# Altium footprint library SOP.PcbLib: 39 footprints (part 3 of 3)
Each footprint in its own frame and in the unit in brackets; x right, y up, seen from the top. Pads: shape width x height; smd on the part's side, far side on the other; paste and mask are expansions set on the pad; w line width, h text height; cw(c..) or ccw(c..) is an arc to the next point about the centre after c.
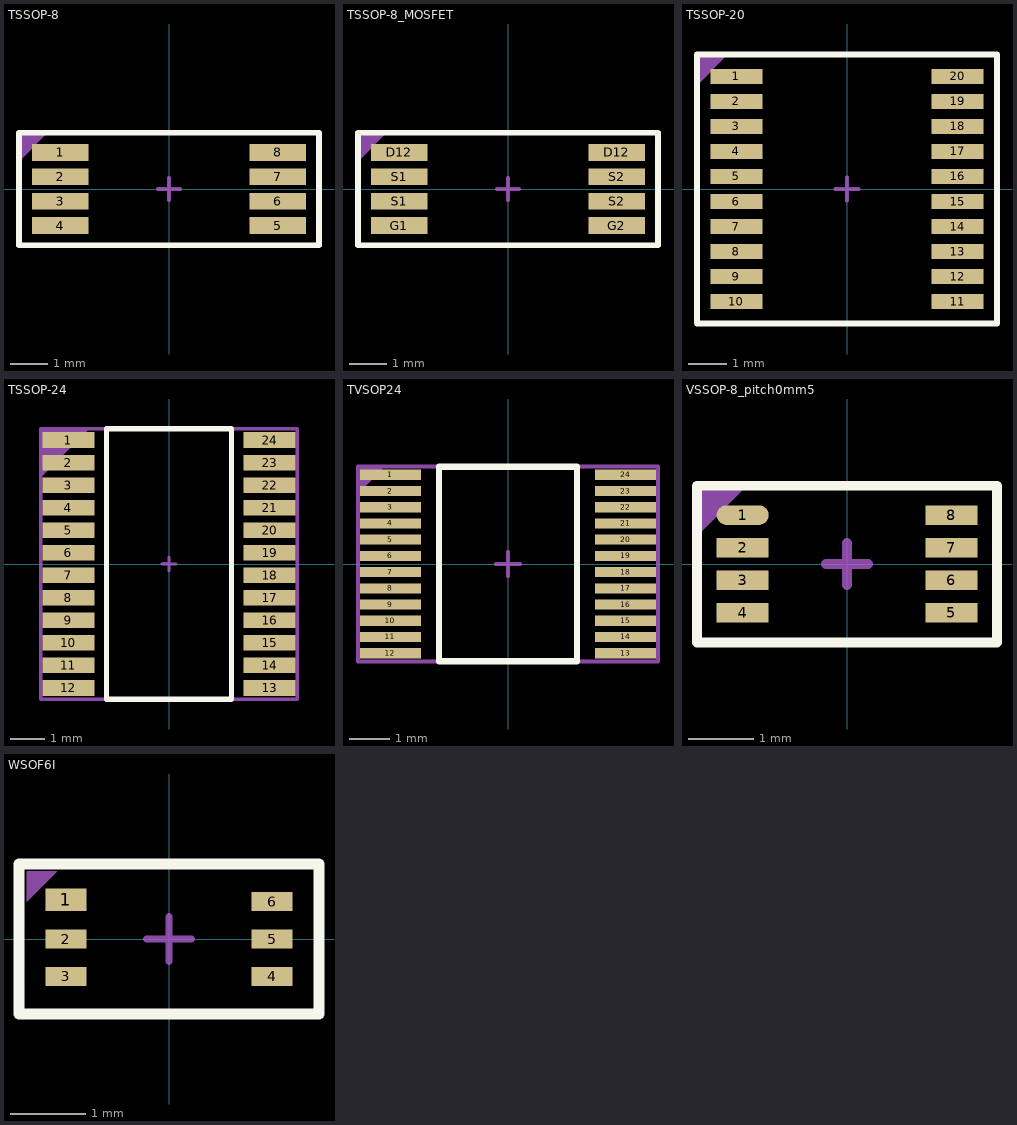
[diagram p2: the footprints below, top view; thin cyan lines are the x and y axes]

## TSSOP-8 [mm]
pads (8):
  rect 1.5x0.45 smd mask+0.02: 1(-2.9,0.975) 2(-2.9,0.325) 3(-2.9,-0.325) 4(-2.9,-0.975) 5(2.9,-0.975) 6(2.9,-0.325) 7(2.9,0.325) 8(2.9,0.975)
Top Overlay:
  lines w0.153: -4,-1.5 -4,1.5 4,1.5 4,-1.5 -4,-1.5
  text "." at -4.597,1.478 h0.8
Top Assembly:
  region: -4,1.5 -3.3,1.5 -4,0.8
  lines w0.1: -4,0.8 -3.3,1.5 ; -4,-1.5 -4,1.5 4,1.5 4,-1.5 -4,-1.5
  text "'.Designator'" at -4.532,-0.333 h0.8
Mechanical 15:
  lines w0.1: -0.3,0 0.3,0 ; 0,-0.3 0,0.3 ; -4,-1.5 4,-1.5 4,1.5 -4,1.5 -4,-1.5
3D body "TSS0P8-1.step": height 1.09, standoff 0, extent -3.123,-1.5 3.157,1.5

## TSSOP-8_MOSFET [mm]
pads (8):
  rect 1.5x0.45 smd mask+0.02: D12(-2.9,0.975) D12(2.9,0.975) G1(-2.9,-0.975) G2(2.9,-0.975) S1(-2.9,-0.325) S1(-2.9,0.325) S2(2.9,-0.325) S2(2.9,0.325)
Top Overlay:
  lines w0.153: -4,-1.5 -4,1.5 4,1.5 4,-1.5 -4,-1.5
  text "." at -4.597,1.478 h0.8
Top Assembly:
  region: -4,1.5 -3.3,1.5 -4,0.8
  lines w0.1: -4,0.8 -3.3,1.5 ; -4,-1.5 -4,1.5 4,1.5 4,-1.5 -4,-1.5
  text "'.Designator'" at -4.532,-0.333 h0.8
Mechanical 15:
  lines w0.1: -0.3,0 0.3,0 ; 0,-0.3 0,0.3 ; -4,-1.5 4,-1.5 4,1.5 -4,1.5 -4,-1.5
3D body "TSS0P8-1.step": height 1.09, standoff 0, extent -3.123,-1.5 3.157,1.5

## TSSOP-20 [mm]
pads (20):
  rect 1.35x0.4 smd: 1(-2.875,2.925) 2(-2.875,2.275) 3(-2.875,1.625) 4(-2.875,0.975) 5(-2.875,0.325) 6(-2.875,-0.325) 7(-2.875,-0.975) 8(-2.875,-1.625) 9(-2.875,-2.275) 10(-2.875,-2.925) 11(2.875,-2.925) 12(2.875,-2.275) 13(2.875,-1.625) 14(2.875,-0.975) 15(2.875,-0.325) 16(2.875,0.325) 17(2.875,0.975) 18(2.875,1.625) 19(2.875,2.275) 20(2.875,2.925)
Top Overlay:
  lines w0.153: -3.9,-3.5 -3.9,3.5 3.9,3.5 3.9,-3.5 -3.9,-3.5
  text "." at -4.347,3.253 h0.8
Top Assembly:
  region: -3.9,3.5 -3.1,3.5 -3.9,2.7
  lines w0.1: -3.9,-3.5 3.9,-3.5 3.9,3.5 -3.9,3.5 -3.9,-3.5
  text "'.Designator'" at 0.333,-4.532 h0.8
Mechanical 15:
  lines w0.1: -0.3,0 0.3,0 ; 0,-0.3 0,0.3 ; -3.9,-3.5 3.9,-3.5 3.9,3.5 -3.9,3.5 -3.9,-3.5
3D body "Сборка _ TSSOP-20.stp": height 1.32, standoff 0, extent -3.215,-3.278 3.2,3.222

## TSSOP-24 [mm]
pads (24):
  rect 1.5x0.45 smd mask+0.05: 1(-2.9,3.575) 2(-2.9,2.925) 3(-2.9,2.275) 4(-2.9,1.625) 5(-2.9,0.975) 6(-2.9,0.325) 7(-2.9,-0.325) 8(-2.9,-0.975) 9(-2.9,-1.625) 10(-2.9,-2.275) 11(-2.9,-2.925) 12(-2.9,-3.575) 13(2.9,-3.575) 14(2.9,-2.925) 15(2.9,-2.275) 16(2.9,-1.625) 17(2.9,-0.975) 18(2.9,-0.325) 19(2.9,0.325) 20(2.9,0.975) 21(2.9,1.625) 22(2.9,2.275) 23(2.9,2.925) 24(2.9,3.575)
Top Overlay:
  lines w0.153: -1.8,-3.9 -1.8,3.9 1.8,3.9 1.8,-3.9 -1.8,-3.9
  text "." at -3.047,4.253 h0.8
Top Assembly:
  region: -3.7,3.9 -3.7,2.5 -2.3,3.9
  lines w0.1: -3.7,-3.9 3.7,-3.9 3.7,3.9 -3.7,3.9 -3.7,-3.9
  text "'.Designator'" at -0.333,4.532 h0.8
Mechanical 15:
  lines w0.1: -0.196,0.002 0.004,0.002 ; 0,-0.2 0,0 ; 0,0.2 0,0 ; 0.2,0 0,0 ; -3.7,-3.9 -3.7,3.9 3.7,3.9 3.7,-3.9 -3.7,-3.9
3D body "User Library-AD8400 TSSOP.step": height 1.17, standoff -0.01, extent -3.203,-3.94 3.203,3.95

## TVSOP24 [mm]
pads (24):
  rect 1.5x0.25 smd: 1(-2.9,2.2) 2(-2.9,1.8) 3(-2.9,1.4) 4(-2.9,1) 5(-2.9,0.6) 6(-2.9,0.2) 7(-2.9,-0.2) 8(-2.9,-0.6) 9(-2.9,-1) 10(-2.9,-1.4) 11(-2.9,-1.8) 12(-2.9,-2.2) 13(2.9,-2.2) 14(2.9,-1.8) 15(2.9,-1.4) 16(2.9,-1) 17(2.9,-0.6) 18(2.9,-0.2) 19(2.9,0.2) 20(2.9,0.6) 21(2.9,1) 22(2.9,1.4) 23(2.9,1.8) 24(2.9,2.2)
Top Overlay:
  lines w0.153: -1.7,-2.4 1.7,-2.4 1.7,2.4 -1.7,2.4 -1.7,-2.4
  text "." at -2.847,2.753 h0.8
Top Assembly:
  region: -3.7,2.4 -3.05,2.4 -3.7,1.75
  lines w0.1: -3.7,-2.4 3.7,-2.4 3.7,2.4 -3.7,2.4 -3.7,-2.4
  text "'.Designator'" at -0.635,8.633 h1.52
Mechanical 15:
  lines w0.1: -0.3,0 0.3,0 ; 0,-0.3 0,0.3 ; -3.7,-2.4 -3.7,2.4 3.7,2.4 3.7,-2.4 -3.7,-2.4
3D body "TVSOP24.stp": height 1.19, standoff -0.02, extent -3.287,-2.448 3.287,2.548

## VSSOP-8_pitch0mm5 [mm]
pads (8):
  oval 0.8x0.3 smd mask+0.02: 1(-1.6,0.75)
  rect 0.8x0.3 smd mask+0.02: 2(-1.6,0.25) 3(-1.6,-0.25) 4(-1.6,-0.75) 5(1.6,-0.75) 6(1.6,-0.25) 7(1.6,0.25) 8(1.6,0.75)
Top Overlay:
  lines w0.153: -2.3,-1.2 -2.3,1.2 2.3,1.2 2.3,-1.2 -2.3,-1.2
  text "." at -3.046,1.054 h1.52
Top Assembly:
  region: -2.3,1.2 -1.6,1.2 -2.3,0.5
  lines w0.1: -2.3,0.5 -1.6,1.2 ; -2.3,-1.2 -2.3,1.2 2.3,1.2 2.3,-1.2 -2.3,-1.2
  text "'.Designator'" at -2.247,-0.38 h0.8
Mechanical 15:
  lines w0.1: -2.3,0.5 -1.6,1.2 ; -2.3,-1.2 -2.3,1.2 2.3,1.2 2.3,-1.2 -2.3,-1.2
  lines w0.153: -0.325,0 0.325,0 ; 0,-0.325 0,0.325
3D body "VSSOP8pitch05.STEP": height 0.9, standoff 0, extent -1.6,-1.05 1.6,1.05

## WSOF6I [mm] "bh1750"
pads (6):
  rect 0.55x0.3 smd mask+0.08: 1(-1.375,0.525)
  rect 0.55x0.25 smd mask+0.08: 2(-1.375,0) 3(-1.375,-0.5) 4(1.375,-0.5) 5(1.375,0) 6(1.375,0.5)
Top Overlay:
  lines w0.153: -2,-1 -2,1 2,1 2,-1 -2,-1
  text "." at -2.367,0.433 h0.8
Top Assembly:
  region: -1.9,0.9 -1.5,0.9 -1.9,0.5
  lines w0.1: -2,-1 2,-1 2,1 -2,1 -2,-1
  text "'.Designator'" at -4.532,-0.333 h0.8
Mechanical 15:
  lines w0.1: -0.3,0 0.3,0 ; 0,-0.3 0,0.3 ; -2,-1 -2,1 2,1 2,-1 -2,-1
3D body "BH1750FVI-TR--3DModel-STEP-56544.STEP": height 0.75, standoff 0, extent -1.5,-0.8 1.5,0.8